# Altium footprint library Tact_Switch_Pcb.PcbLib: 4 footprints
Each footprint in its own frame and in the unit in brackets; x right, y up, seen from the top. Pads: shape width x height; smd on the part's side, far side on the other; paste and mask are expansions set on the pad; w line width, h text height; cw(c..) or ccw(c..) is an arc to the next point about the centre after c.
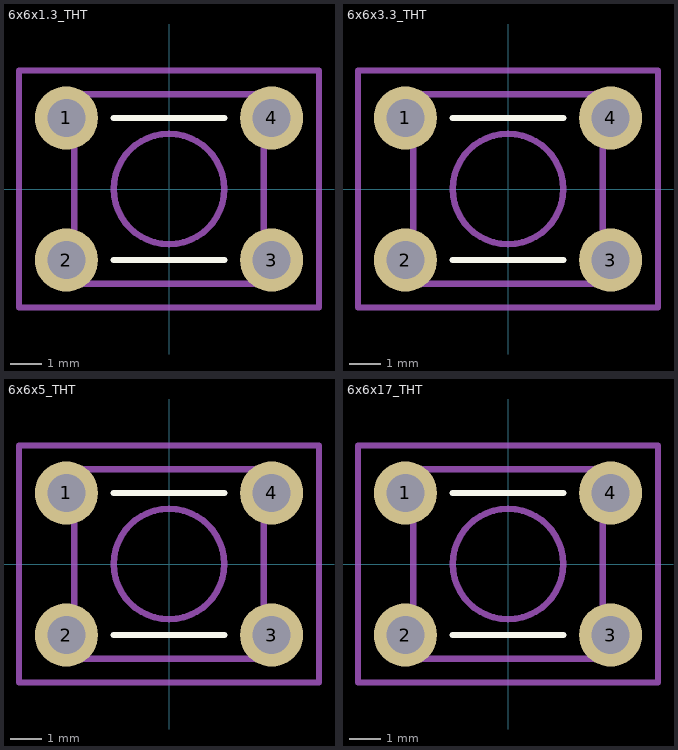
[diagram p0: the footprints below, top view; thin cyan lines are the x and y axes]

## 6x6x1.3_THT [mm] "6x6x5 tactile switch. Height=5mm"
pads (4):
  round 2 hole 1.2 paste+0 mask+0.1: 1(-3.25,2.25) 2(-3.25,-2.25) 3(3.25,-2.25) 4(3.25,2.25)
Top Overlay:
  lines w0.2: -1.75,-2.25 1.75,-2.25 ; -1.75,2.25 1.75,2.25
Mechanical 13:
  circle w0.2: c0,0 r1.75
  lines w0.2: -3,-3 3,-3 3,3 -3,3 -3,-3
  text "'.designator'" at -2.6,-2.433 h0.5
Mechanical 15:
  lines w0.2: -4.75,-3.75 4.75,-3.75 4.75,3.75 -4.75,3.75 -4.75,-3.75
3D body "6x6x1_3_THT.stp": height 5.01, standoff -3.79, extent -3.98,-3.3 3.979,3.3

## 6x6x3.3_THT [mm] "6x6x5 tactile switch. Height=5mm"
pads (4):
  round 2 hole 1.2 paste+0 mask+0.1: 1(-3.25,2.25) 2(-3.25,-2.25) 3(3.25,-2.25) 4(3.25,2.25)
Top Overlay:
  lines w0.2: -1.75,-2.25 1.75,-2.25 ; -1.75,2.25 1.75,2.25
Mechanical 13:
  circle w0.2: c0,0 r1.75
  lines w0.2: -3,-3 3,-3 3,3 -3,3 -3,-3
  text "'.designator'" at -2.6,-2.433 h0.5
Mechanical 15:
  lines w0.2: -4.75,-3.75 4.75,-3.75 4.75,3.75 -4.75,3.75 -4.75,-3.75
3D body "6x6x3.3_THT.stp": height 5, standoff -3.5, extent -3.95,-3.1 3.95,3.1

## 6x6x5_THT [mm] "6x6x5 tactile switch. Height=5mm"
pads (4):
  round 2 hole 1.2 paste+0 mask+0.1: 1(-3.25,2.25) 2(-3.25,-2.25) 3(3.25,-2.25) 4(3.25,2.25)
Top Overlay:
  lines w0.2: -1.75,-2.25 1.75,-2.25 ; -1.75,2.25 1.75,2.25
Mechanical 13:
  circle w0.2: c0,0 r1.75
  lines w0.2: -3,-3 3,-3 3,3 -3,3 -3,-3
  text "'.designator'" at -2.6,-2.433 h0.5
Mechanical 15:
  lines w0.2: -4.75,-3.75 4.75,-3.75 4.75,3.75 -4.75,3.75 -4.75,-3.75
3D body "6x6x5_THT.stp": height 7.01, standoff -3.49, extent -3.95,-3.3 3.95,3.3

## 6x6x17_THT [mm] "6x6x5 tactile switch. Height=5mm"
pads (4):
  round 2 hole 1.2 paste+0 mask+0.1: 1(-3.25,2.25) 2(-3.25,-2.25) 3(3.25,-2.25) 4(3.25,2.25)
Top Overlay:
  lines w0.2: -1.75,-2.25 1.75,-2.25 ; -1.75,2.25 1.75,2.25
Mechanical 13:
  circle w0.2: c0,0 r1.75
  lines w0.2: -3,-3 3,-3 3,3 -3,3 -3,-3
  text "'.designator'" at -2.6,-2.433 h0.5
Mechanical 15:
  lines w0.2: -4.75,-3.75 4.75,-3.75 4.75,3.75 -4.75,3.75 -4.75,-3.75
3D body "6x6x17_THT.stp": height 17.01, standoff -3.49, extent -3.95,-3.1 3.95,3.1